# EAGLE library part PCA9536 (library SparkFun-IC-Conversion)
PCA9536 4-Bit I2C I/O Expander
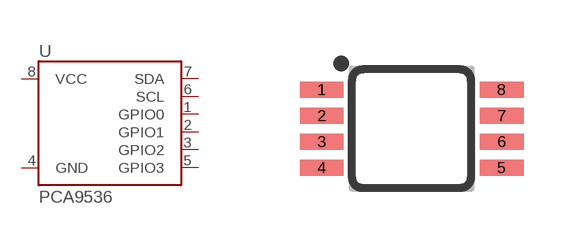
[diagram p10: symbol with the pads of MSOP8; footprint MSOP8]

Designator prefix U

## PCA9536 (PROD_ID: IC-15034)  [MSOP8]
1  GPIO0
2  GPIO1
3  GPIO2
4  GND
5  GPIO3
6  SCL
7  SDA
8  VCC

## Footprint MSOP8 (pad centres in mm)
8M, 8-Lead, 0.118" Wide, Miniature Small Outline Package MSOP 8M-Package doc1097.pdf
smd 1.1 x 0.4: 1 -2.25,0.975; 2 -2.25,0.325; 3 -2.25,-0.325; 4 -2.25,-0.975; 5 2.25,-0.975; 6 2.25,-0.325; 7 2.25,0.325; 8 2.25,0.975